# Altium footprint library DF11-10DP-2DSA.PcbLib: 1 footprints
Each footprint in its own frame and in the unit in brackets; x right, y up, seen from the top. Pads: shape width x height; smd on the part's side, far side on the other; paste and mask are expansions set on the pad; w line width, h text height; cw(c..) or ccw(c..) is an arc to the next point about the centre after c.
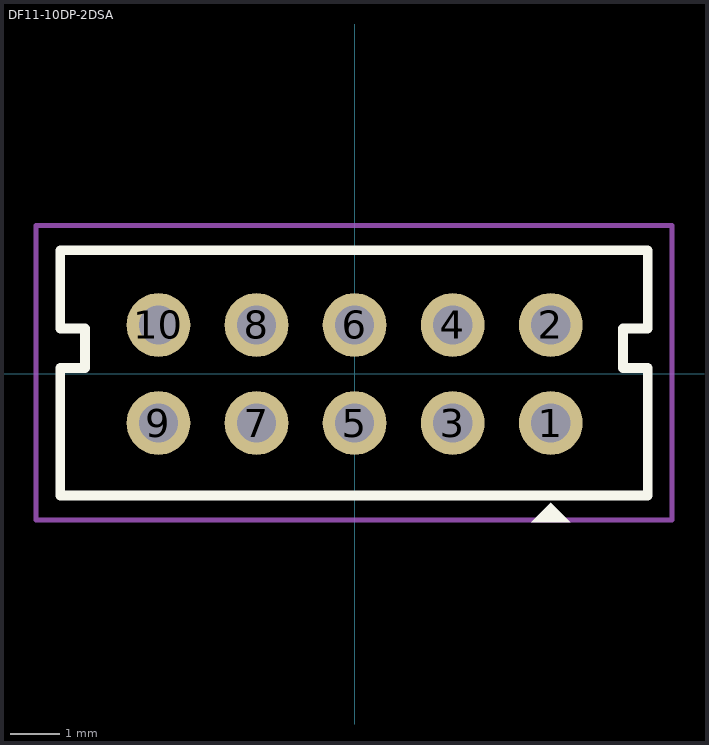
[diagram p0: the footprint, top view; thin cyan lines are the x and y axes]

## DF11-10DP-2DSA [mm]
pads (10):
  round 1.3 hole 0.8: 1(4,-1) 2(4,1) 3(2,-1) 4(2,1) 5(0,-1) 6(0,1) 7(-2,-1) 8(-2,1) 9(-4,-1) 10(-4,1)
Top Overlay:
  region: 4.4,-3.025 3.6,-3.025 4,-2.625
  lines w0.2: -6,-2.475 -6,0.125 -5.5,0.125 -5.5,0.925 -6,0.925 -6,2.525 5.975,2.525 5.975,0.925 5.475,0.925 5.475,0.125 5.975,0.125 5.975,-2.475 -6,-2.475
Top Courtyard:
  lines w0.1: -6.5,-2.975 6.475,-2.975 6.475,3.025 -6.5,3.025 -6.5,-2.475 -6.5,-2.975
3D body "DF11-10DP-2DSA.stp": height 6.7, standoff -2.9, extent -6,-2.5 6,2.5